# Altium schematic symbol library RJ45.SchLib: 2 symbols
Pins are listed as number, name and electrical type; pins without a type are passive.

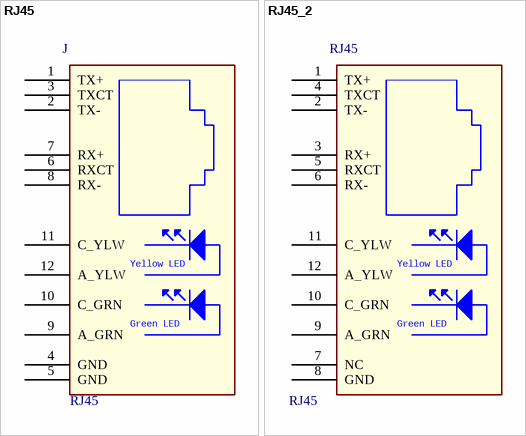
[diagram p0: symbols RJ45 to RJ45_2]

## RJ45
designator J  value RJ45  (hidden comment: *)
Manufacturer Code: 48025-0002; Manufacturer: Molex; Farnell Code: 1393228
footprint 480250002 (Molex Code 480250002)
pins: 1 TX+, 2 TX-, 3 TXCT, 4 GND, 5 GND, 6 RXCT, 7 RX+, 8 RX-, 9 A_GRN, 10 C_GRN, 11 C_YLW, 12 A_YLW
text: Yellow LED; Green LED

## RJ45_2
designator RJ45  value RJ45  (hidden comment: *)
Manufacturer Code: J00-0045NL; Manufacturer: PULSE Electronics; Digikey Code: 553-1619-5-ND; Unit Price: 5,13 $
footprint J00-0045NL (Footprint not found)
pins: 1 TX+, 2 TX-, 3 RX+, 4 TXCT, 5 RXCT, 6 RX-, 7 NC, 8 GND, 9 A_GRN, 10 C_GRN, 11 C_YLW, 12 A_YLW
text: Yellow LED; Green LED